# EAGLE library part STC8H8K_64 (library STC8H8K_64)
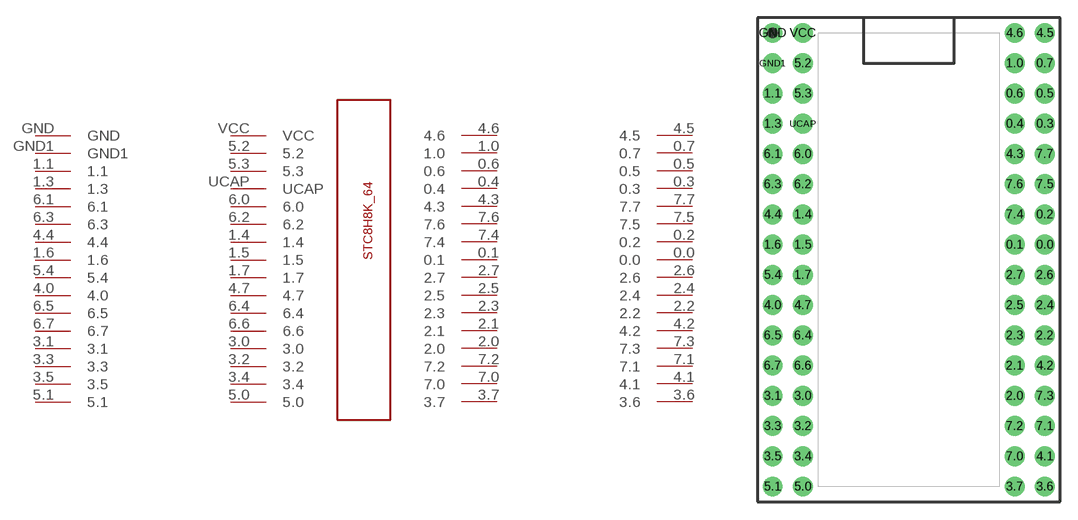
[diagram p0: symbol with the pads of STC8H8K_64; footprint STC8H8K_64]

Designator prefix -

## STC8H8K_64  [STC8H8K_64]
0.0  0.0
0.1  0.1
0.2  0.2
0.3  0.3
0.4  0.4
0.5  0.5
0.6  0.6
0.7  0.7
1.0  1.0
1.1  1.1
1.3  1.3
1.4  1.4
1.5  1.5
1.6  1.6
1.7  1.7
2.0  2.0
2.1  2.1
2.2  2.2
2.3  2.3
2.4  2.4
2.5  2.5
2.6  2.6
2.7  2.7
3.0  3.0
3.1  3.1
3.2  3.2
3.3  3.3
3.4  3.4
3.5  3.5
3.6  3.6
3.7  3.7
4.0  4.0
4.1  4.1
4.2  4.2
4.3  4.3
4.4  4.4
4.5  4.5
4.6  4.6
4.7  4.7
5.0  5.0
5.1  5.1
5.2  5.2
5.3  5.3
5.4  5.4
6.0  6.0
6.1  6.1
6.2  6.2
6.3  6.3
6.4  6.4
6.5  6.5
6.6  6.6
6.7  6.7
7.0  7.0
7.1  7.1
7.2  7.2
7.3  7.3
7.4  7.4
7.5  7.5
7.6  7.6
7.7  7.7
GND  GND
GND1  GND1
UCAP  UCAP
VCC  VCC

## Footprint STC8H8K_64 (pad centres in mm)
drill 1 pad 1.676: 0.0 22.86,-17.78; 0.1 20.32,-17.78; 0.2 22.86,-15.24; 0.3 22.86,-7.62; 0.4 20.32,-7.62; 0.5 22.86,-5.08; 0.6 20.32,-5.08; 0.7 22.86,-2.54; 1.0 20.32,-2.54; 1.1 0,-5.08; 1.3 0,-7.62; 1.4 2.54,-15.24; 1.5 2.54,-17.78; 1.6 0,-17.78; 1.7 2.54,-20.32; 2.0 20.32,-30.48; 2.1 20.32,-27.94; 2.2 22.86,-25.4; 2.3 20.32,-25.4; 2.4 22.86,-22.86; 2.5 20.32,-22.86; 2.6 22.86,-20.32; 2.7 20.32,-20.32; 3.0 2.54,-30.48; 3.1 0,-30.48; 3.2 2.54,-33.02; 3.3 0,-33.02; 3.4 2.54,-35.56; 3.5 0,-35.56; 3.6 22.86,-38.1; 3.7 20.32,-38.1; 4.0 0,-22.86; 4.1 22.86,-35.56; 4.2 22.86,-27.94; 4.3 20.32,-10.16; 4.4 0,-15.24; 4.5 22.86,0; 4.6 20.32,0; 4.7 2.54,-22.86; 5.0 2.54,-38.1; 5.1 0,-38.1; 5.2 2.54,-2.54; 5.3 2.54,-5.08; 5.4 0,-20.32; 6.0 2.54,-10.16; 6.1 0,-10.16; 6.2 2.54,-12.7; 6.3 0,-12.7; 6.4 2.54,-25.4; 6.5 0,-25.4; 6.6 2.54,-27.94; 6.7 0,-27.94; 7.0 20.32,-35.56; 7.1 22.86,-33.02; 7.2 20.32,-33.02; 7.3 22.86,-30.48; 7.4 20.32,-15.24; 7.5 22.86,-12.7; 7.6 20.32,-12.7; 7.7 22.86,-10.16; GND 0,0; GND1 0,-2.54; UCAP 2.54,-7.62; VCC 2.54,0